# EAGLE library part LM2678T-12/NOPB (library DigiKey)
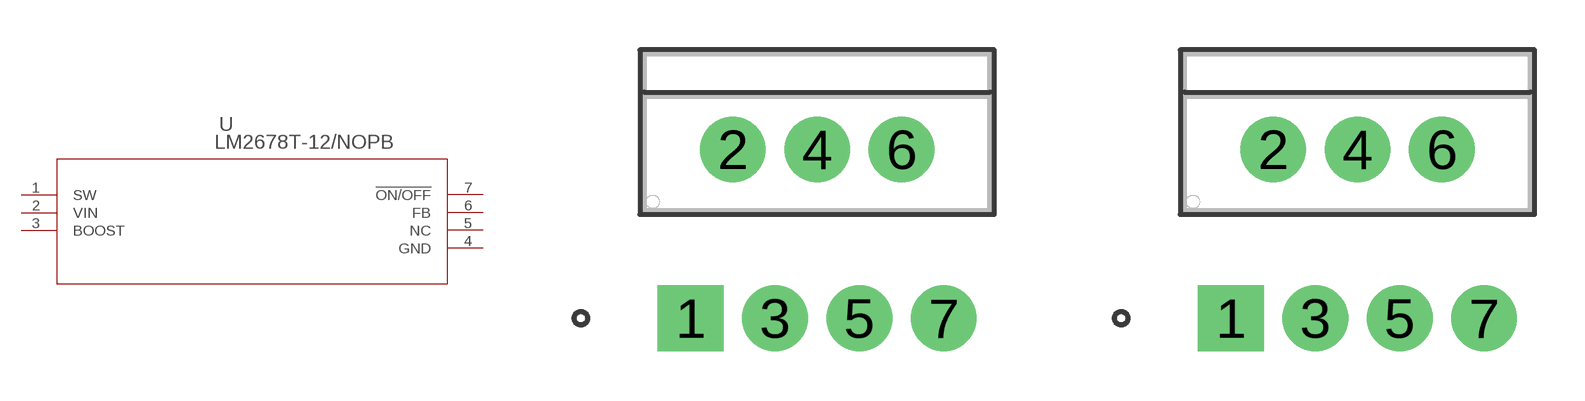
[diagram p4: symbol with the pads of TA07B; footprints TA07B, TA07BM]

Designator prefix U

## LM2678T-12/NOPB (MANUFACTURER_PART_NUMBER: LM2678T12NOPB; VENDOR: Texas Instruments)  [TA07B]
1  SW  out
2  VIN  in
3  BOOST  pas
4  GND  pas
5  NC  pas
6  FB  pas
7  !ON/OFF  pas

## LM2678T-12/NOPBTA07BM (MANUFACTURER_PART_NUMBER: LM2678T12NOPB; VENDOR: Texas Instruments)  [TA07BM]
Pads as for TA07B

## LM2678T-12/NOPBTA07BL (MANUFACTURER_PART_NUMBER: LM2678T12NOPB; VENDOR: Texas Instruments)  [TA07BL]
Pads as for TA07B

## Footprint TA07B (pad centres in mm)
drill 1.321 pad 1.829 square: 1 -7.62,-11.201
drill 1.321 pad 1.829: 2 -6.35,-6.121; 3 -5.08,-11.201; 4 -3.81,-6.121; 5 -2.54,-11.201; 6 -1.27,-6.121; 7 0,-11.201

## Footprint TA07BM (pad centres in mm)
drill 1.321 pad 1.829 square: 1 -7.62,-11.201
drill 1.321 pad 1.829: 2 -6.35,-6.121; 3 -5.08,-11.201; 4 -3.81,-6.121; 5 -2.54,-11.201; 6 -1.27,-6.121; 7 0,-11.201

## Footprint TA07BL (pad centres in mm)
drill 1.321 pad 1.829 square: 1 -7.62,-11.201
drill 1.321 pad 1.829: 2 -6.35,-6.121; 3 -5.08,-11.201; 4 -3.81,-6.121; 5 -2.54,-11.201; 6 -1.27,-6.121; 7 0,-11.201